# EAGLE library part FOD8342R2 (library IC)
OPTOISO 5KV 1CH GATE DRIVER 6SOP Manufacturer's datasheet <https://www.onsemi.com/pub/Collateral/FOD8342-D.PDF>
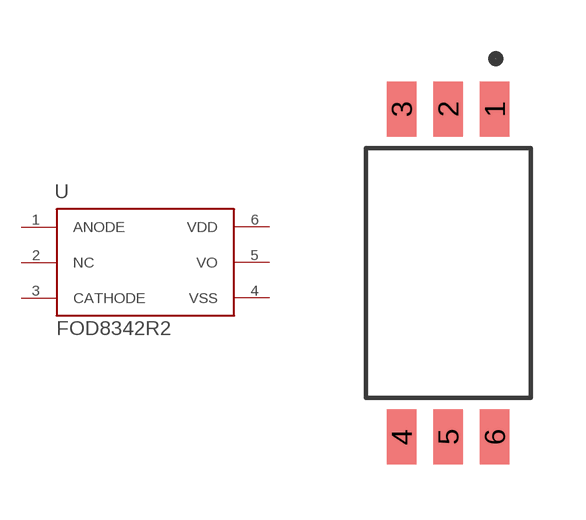
[diagram p18: symbol with the pads of 6-SOP; footprint 6-SOP]

Designator prefix U

## FOD8342R2 (CREATED_BY: PCBLayout.com; DIGIKEY_PN: FOD8342R2TR-ND; MANUFACTURER: ON Semiconductor; MPN: FOD8342R2; PACKAGE: 6-SOP)  [6-SOP]
1  ANODE  in
2  NC  pas
3  CATHODE  in
4  VSS  pwr
5  VO  out
6  VDD  pwr

## Footprint 6-SOP (pad centres in mm)
smd 0.8 x 1.5: 1 1.27,4.475; 2 0,4.475; 3 -1.27,4.475; 4 -1.27,-4.475; 5 0,-4.475; 6 1.27,-4.475